# Altium schematic symbol library DM1097_R1M1E1.SCHLIB: 105 symbols (part 2 of 5)
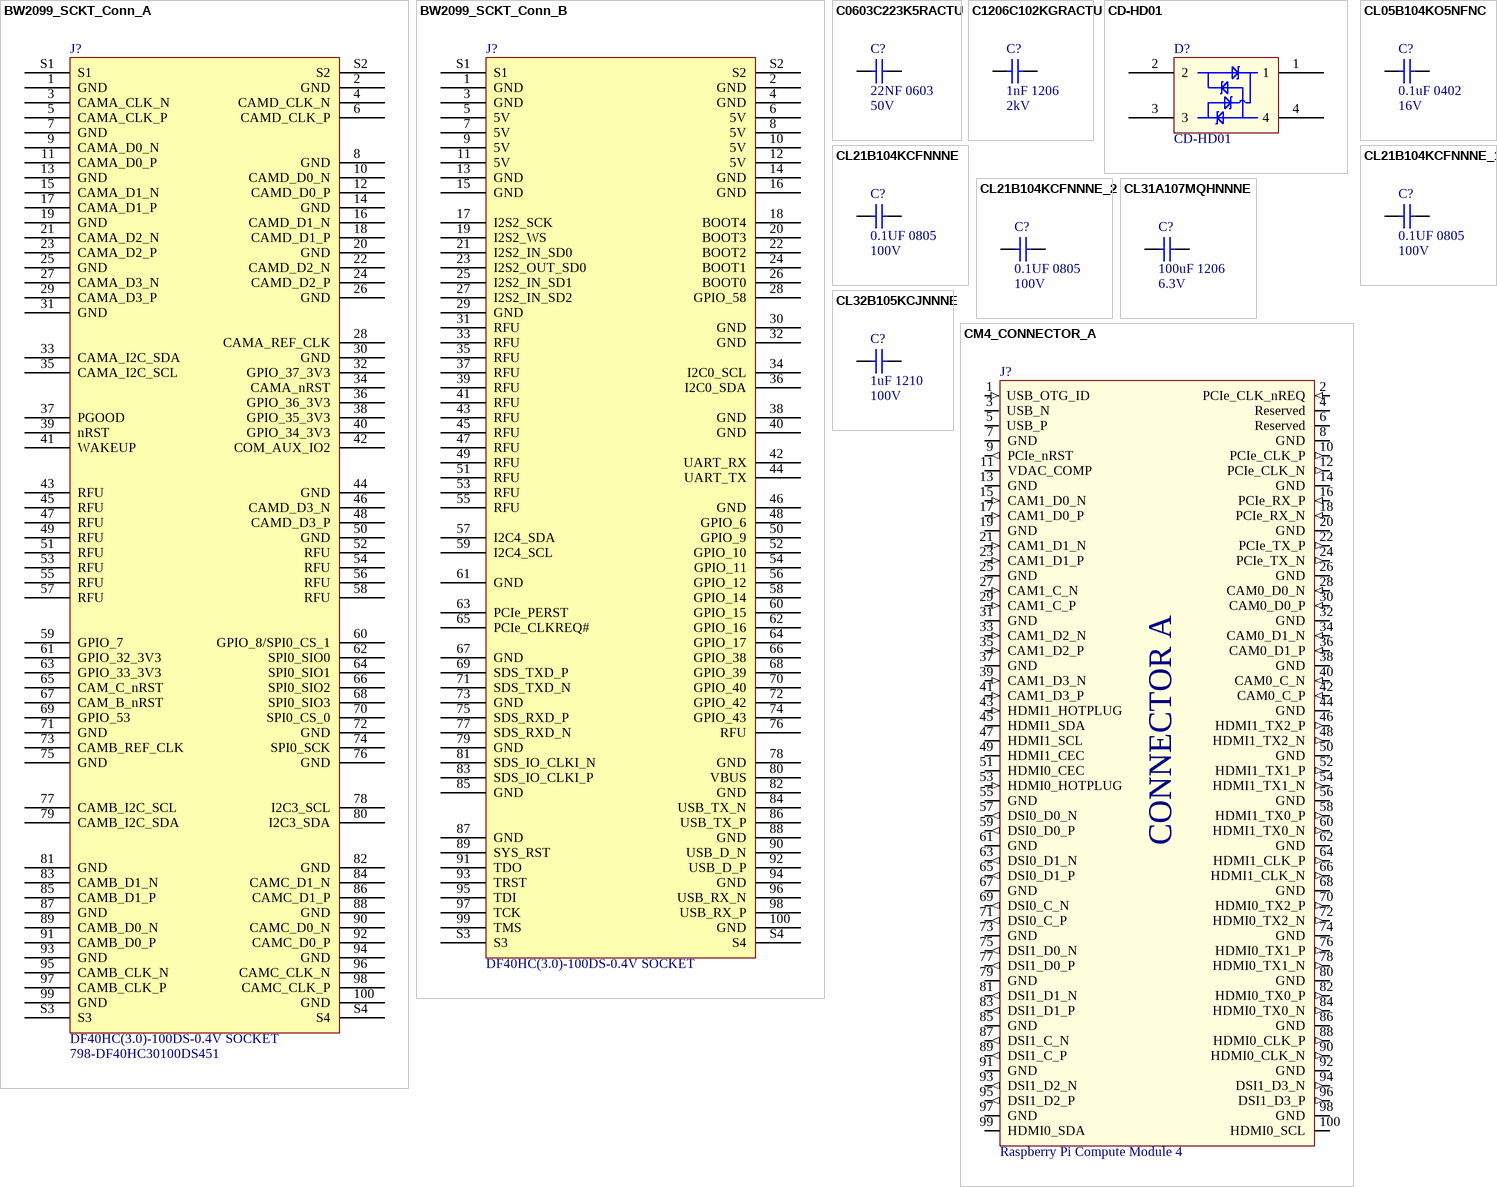
[diagram p4: symbols BW2099_SCKT_Conn_A to CM4_CONNECTOR_A]

## CM4_CONNECTOR_A
designator J?, comment Raspberry Pi Compute Module 4
Raspberry Pi Compute Module 4 Hirose connector A; Manufacturer Part Number 1: DF40HC(3.0)-100DS-0.4V(51; ComponentLink1Description: https://datasheet.ciiva.com/46636/ed-df40-20140305-46636517.pdf?src-supplier=Digi-Key; ComponentLink1URL: https://datasheet.ciiva.com/46636/ed-df40-20140305-46636517.pdf?src-supplier=Digi-Key; ComponentLink2Description: https://datasheet.ciiva.com/18562/ed-df40-20140305-18562189.pdf?src-supplier=Digi-Key; ComponentLink2URL: https://datasheet.ciiva.com/18562/ed-df40-20140305-18562189.pdf?src-supplier=Digi-Key; ComponentLink3Description: https://datasheet.ciiva.com/13559/ed-df40-20140305-13559540.pdf?src-supplier=Mouser; ComponentLink3URL: https://datasheet.ciiva.com/13559/ed-df40-20140305-13559540.pdf?src-supplier=Mouser; ComponentLink4Description: https://datasheet.ciiva.com/18562/ed-df40-20140305-18562462.pdf?src-supplier=Digi-Key; ComponentLink4URL: https://datasheet.ciiva.com/18562/ed-df40-20140305-18562462.pdf?src-supplier=Digi-Key; Manufacturer 1: Hirose
footprint CM4-Connector-A (DF40HC(3.0)-100DS-0.4v by Amornthep Phunsin)
pins: 1 USB_OTG_ID (in) "Input ( 3.3V signal ) USB OTG Pin. Internal pulled up. When grounded the CM4 becomes a USB host but the correct OS driver also needs to be used", 2 PCIe_CLK_nREQ (in) "Input ( 3.3V signal) PCIe Clock request pin (low to request PCI clock). Internal pulled up", 3 USB_N "USB D-", 4 Reserved "Do not Connect anything to this pin.", 5 USB_P "USB D+", 6 Reserved "Do not Connect anything to this pin.", 7 GND (power) "Ground (0V)", 8 GND (power) "Ground (0V)", 9 PCIe_nRST (out) "Output (+3.3V signal) PCIe Reset Low active", 10 PCIe_CLK_P (out) "PCIe Clock Out Positive (100MHz) NB AC coupling Capacitor Included on CM4", 11 VDAC_COMP "Video DAC output (TV OUT)", 12 PCIe_CLK_N (out) "PCIe Clock Out Negative (100MHz) NB AC coupling Capacitor Included on CM4", 13 GND (power) "Ground (0V)", 14 GND (power) "Ground (0V)", 15 CAM1_D0_N (in) "Input Camera1 D0 Negative", 16 PCIe_RX_P (in) "Input PCIe GEN 2 RX Positive NB External AC coupling Capacitor required", 17 CAM1_D0_P (in) "Input Camera1 D0 Positive", 18 PCIe_RX_N (in) "Input PCIe GEN 2 RX Negative NB External AC coupling Capacitor required", 19 GND (power) "Ground (0V)", 20 GND (power) "Ground (0V)", 21 CAM1_D1_N (in) "Input Camera1 D1 Negative", 22 PCIe_TX_P (out) "Output PCIe GEN 2 TX Positive NB AC coupling Capacitor Included on CM4", 23 CAM1_D1_P (in) "Input Camera1 D1 Positive", 24 PCIe_TX_N (out) "Output PCIe GEN 2 TX Positive NB AC coupling Capacitor Included on CM4", 25 GND (power) "Ground (0V)", 26 GND (power) "Ground (0V)", 27 CAM1_C_N (in) "Input Camera1 Clock Negative", 28 CAM0_D0_N (in) "Input Camera0 D0 Negative", 29 CAM1_C_P (in) "Input Camera1 Clock Positive", 30 CAM0_D0_P (in) "Input Camera0 D0 Positive", 31 GND (power) "Ground (0V)", 32 GND (power) "Ground (0V)", 33 CAM1_D2_N (in) "Input Camera1 D2 Negative", 34 CAM0_D1_N (in) "Input Camera0 D1 Negative", 35 CAM1_D2_P (in) "Input Camera1 D2 Positive", 36 CAM0_D1_P (in) "Input Camera0 D1 Positive", 37 GND (power) "Ground (0V)", 38 GND (power) "Ground (0V)", 39 CAM1_D3_N (in) "Input Camera1 D3 Negative", 40 CAM0_C_N (in) "Input Camera0 Clock Negative", 41 CAM1_D3_P (in) "Input Camera1 D3 Positive", 42 CAM0_C_P (in) "Input Camera0 Clock Positive", 43 HDMI1_HOTPLUG (in) "Input HDMI1 Hotplug Internally pulled down with a 100K. 5V tolerant. (It can be connected directly to a HDMI connector a small amount of ESD protection is provided on the CM4 by an on board HDMI05-CL02F3)", 44 GND (power) "Ground (0V)", 45 HDMI1_SDA (io) "Bidir HDMI1 SDA Internally pulled up with a 1.8K. 5V tolerant. (It can be connected directly to a HDMI connector a small amount of ESD protection is provided on the CM4 by an on board HDMI05-CL02F3)", 46 HDMI1_TX2_P (out) "Output HDMI1 TX2 Positive", 47 HDMI1_SCL (oc) "Input HDMI1 SCL Internally pulled up with a 1.8K. 5V tolerant. (It can be connected directly to a HDMI connector a small amount of ESD protection is provided on the CM4 by an on board HDMI05-CL02F3)", 48 HDMI1_TX2_N (out) "Output HDMI1 TX2 Negative", 49 HDMI1_CEC (oc) "Input HDMI1 CEC Internally pulled up with a 27K. 5V tolerant. (It can be connected directly to a HDMI connector a small amount of ESD protection is provided on the CM4 by an on board HDMI05-CL02F3)", 50 GND (power) "Ground (0V)", 51 HDMI0_CEC (oc) "Input HDMI0 CEC Internally pulled up with a 27K. 5V tolerant (It can be connected directly to a HDMI connector a small amount of ESD protection is provided on the CM4 by an on board HDMI05-CL02F3)", 52 HDMI1_TX1_P (out) "Output HDMI1 TX1 Positive", 53 HDMI0_HOTPLUG (in) "Input HDMI0 Hotplug Internally pulled down 100K. 5V tolerant. (It can be connected directly to a HDMI connector a small amount of ESD protection is provided on the CM4 by an on board HDMI05-CL02F3)", 54 HDMI1_TX1_N (out) "Output HDMI1 TX1 Negative", 55 GND (power) "Ground (0V)", 56 GND (power) "Ground (0V)", 57 DSI0_D0_N (out) "Output Display0 D0 Negative", 58 HDMI1_TX0_P (out) "Output HDMI1 TX0 Positive", 59 DSI0_D0_P (out) "Output Display0 D0 Positive", 60 HDMI1_TX0_N (out) "Output HDMI1 TX0 Negative", 61 GND (power) "Ground (0V)", 62 GND (power) "Ground (0V)", 63 DSI0_D1_N (out) "Output Display0 D1 Negative", 64 HDMI1_CLK_P (out) "Output HDMI1 Clock Positive", 65 DSI0_D1_P (out) "Output Display0 D1 Positive", 66 HDMI1_CLK_N (out) "Output HDMI1 Clock Negative", 67 GND (power) "Ground (0V)", 68 GND (power) "Ground (0V)", 69 DSI0_C_N (out) "Output Display0 Clock Negative", 70 HDMI0_TX2_P (out) "Output HDMI0 TX2 Positive", 71 DSI0_C_P (out) "Output Display0 Clock Positive", 72 HDMI0_TX2_N (out) "Output HDMI0 TX2 Negative", 73 GND (power) "Ground (0V)", 74 GND (power) "Ground (0V)", 75 DSI1_D0_N (out) "Output Display1 D0 Negative", 76 HDMI0_TX1_P (out) "Output HDMI0 TX1 Positive", 77 DSI1_D0_P (out) "Output Display1 D0 Positive", 78 HDMI0_TX1_N (out) "Output HDMI0 TX1 Negative", 79 GND (power) "Ground (0V)", 80 GND (power) "Ground (0V)", 81 DSI1_D1_N (out) "Output Display1 D1 Negative", 82 HDMI0_TX0_P (out) "Output HDMI0 TX0 Positive", 83 DSI1_D1_P (out) "Output Display1 D1 Positive", 84 HDMI0_TX0_N (out) "Output HDMI0 TX0 Negative", 85 GND (power) "Ground (0V)", 86 GND (power) "Ground (0V)", 87 DSI1_C_N (out) "Output Display1 Clock Negative", 88 HDMI0_CLK_P (out) "Output HDMI0 Clock Positive", 89 DSI1_C_P (out) "Output Display1 Clock Positive", 90 HDMI0_CLK_N (out) "Output HDMI0 Clock Negative", 91 GND (power) "Ground (0V)", 92 GND (power) "Ground (0V)", 93 DSI1_D2_N (out) "Output Display1 D2 Negative", 94 DSI1_D3_N (out) "Output Display1 D3 Negative", 95 DSI1_D2_P (out) "Output Display1 D2 Positive", 96 DSI1_D3_P (out) "Output Display1 D3 Positive", 97 GND (power) "Ground (0V)", 98 GND (power) "Ground (0V)", 99 HDMI0_SDA (io) "Bidir HDMI0 SDA Internally pulled up with a 1.8K. 5V tolerant. (It can be connected directly to a HDMI connector a small amount of ESD protection is provided on the CM4 by an on board HDMI05-CL02F3)", 100 HDMI0_SCL (oc) "Bidir HDMI0 SCL Internally pulled up with a 1.8K. 5V tolerant. (It can be connected directly to a HDMI connector a small amount of ESD protection is provided on the CM4 by an on board HDMI05-CL02F3)"
text: CONNECTOR A

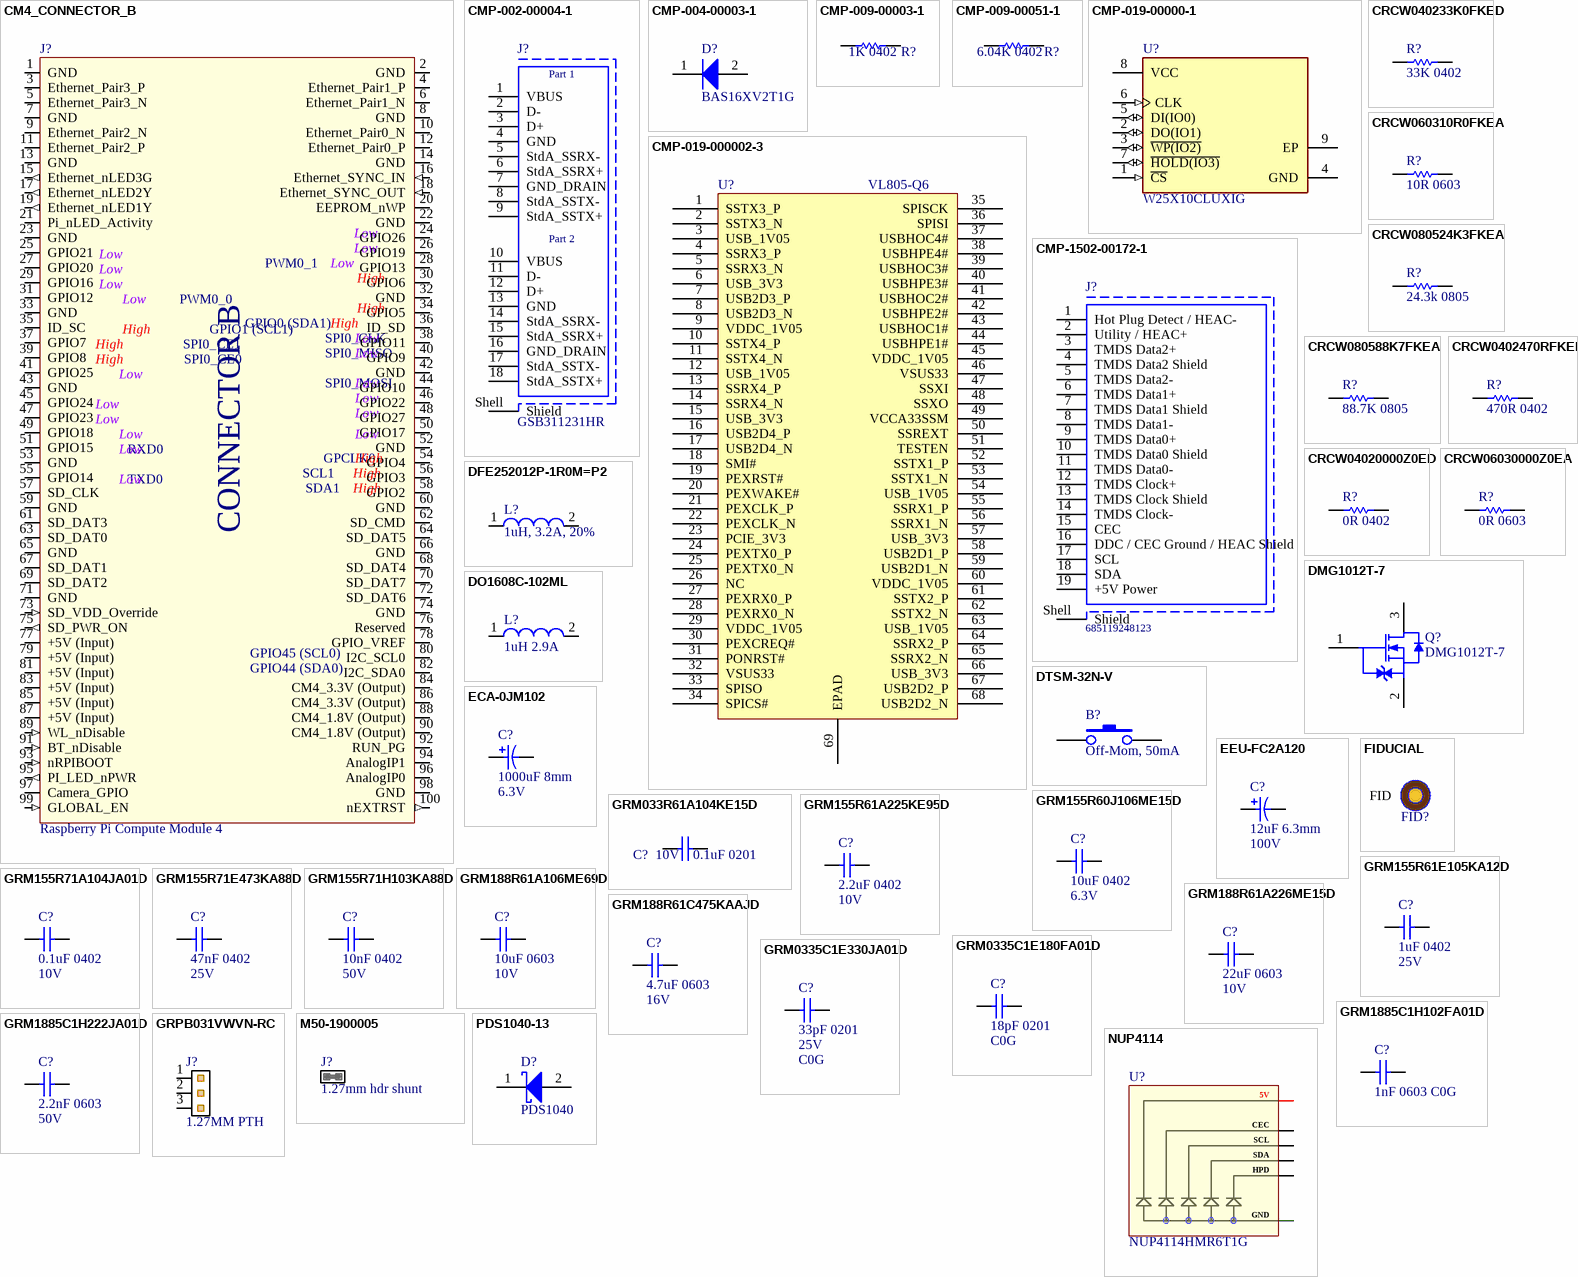
[diagram p2: symbols CM4_CONNECTOR_B to PDS1040-13]

## CM4_CONNECTOR_B
designator J?, comment Raspberry Pi Compute Module 4
Raspberry Pi Compute Module 4 Hirose connector B; Manufacturer Part Number 1: DF40HC(3.0)-100DS-0.4V(51; ComponentLink1Description: https://datasheet.ciiva.com/46636/ed-df40-20140305-46636517.pdf?src-supplier=Digi-Key; ComponentLink1URL: https://datasheet.ciiva.com/46636/ed-df40-20140305-46636517.pdf?src-supplier=Digi-Key; ComponentLink2Description: https://datasheet.ciiva.com/18562/ed-df40-20140305-18562189.pdf?src-supplier=Digi-Key; ComponentLink2URL: https://datasheet.ciiva.com/18562/ed-df40-20140305-18562189.pdf?src-supplier=Digi-Key; ComponentLink3Description: https://datasheet.ciiva.com/13559/ed-df40-20140305-13559540.pdf?src-supplier=Mouser; ComponentLink3URL: https://datasheet.ciiva.com/13559/ed-df40-20140305-13559540.pdf?src-supplier=Mouser; ComponentLink4Description: https://datasheet.ciiva.com/18562/ed-df40-20140305-18562462.pdf?src-supplier=Digi-Key; ComponentLink4URL: https://datasheet.ciiva.com/18562/ed-df40-20140305-18562462.pdf?src-supplier=Digi-Key; Manufacturer 1: Hirose
footprint CM4-Connector-B (DF40HC(3.0)-100DS-0.4v by Amornthep Phunsin)
pins: 1 GND (power) "Ground (0V)", 2 GND (power) "Ground (0V)", 3 Ethernet_Pair3_P "Ethernet Pair 3 Positive ( connect to Transformer or MagJack)", 4 Ethernet_Pair1_P "Ethernet Pair 1 Positive ( connect to Transformer or MagJack)", 5 Ethernet_Pair3_N "Ethernet Pair 3 Negative ( connect to Transformer or MagJack)", 6 Ethernet_Pair1_N "Ethernet Pair 1 Negative ( connect to Transformer or MagJack)", 7 GND (power) "Ground (0V)", 8 GND (power) "Ground (0V)", 9 Ethernet_Pair2_N "Ethernet Pair 2 Negative ( connect to Transformer or MagJack)", 10 Ethernet_Pair0_N "Ethernet Pair 0 Negative ( connect to Transformer or MagJack)", 11 Ethernet_Pair2_P "Ethernet Pair 2 Positive ( connect to Transformer or MagJack)", 12 Ethernet_Pair0_P "Ethernet Pair 0 Positive ( connect to Transformer or MagJack)", 13 GND (power) "Ground (0V)", 14 GND (power) "Ground (0V)", 15 Ethernet_nLED3G (out) "Low Active Ethernet Activity indicator ( 3.3V signal) Typically a Green LED is connected to this pin: IOL = 8mA @ VOL< 0.4V", 16 Ethernet_SYNC_IN (in) "IEEE1588 SYNC Input pin ( 1.8V signal : IOL = 8mA @ VOL< 0.4V )", 17 Ethernet_nLED2Y (out) "Low Active Ethernet speed indicator ( 3.3V signal) Typically a Yellow LED is connected to this pin. A low State indicates the 1Gbit or 100Mbit Link : IOL = 8mA @ VOL< 0.4V", 18 Ethernet_SYNC_OUT (in) "IEEE1588 SYNC Output pin ( 1.8V signal : IOL = 8mA @ VOL< 0.4V )", 19 Ethernet_nLED1Y (out) "Low Active Ethernet speed indicator ( 3.3V signal) Typically a Yellow LED is connected to this pin. A low State indicates the 1Gbit or 10Mbit Link : IOL = 8mA @ VOL< 0.4V", 20 EEPROM_nWP "Leaving floating NB internally pulled up to CM4_3.3V via 100K ( VIL <0.8V) but can be grounded to prevent writing to the on board EEPROM which stores the bootcode", 21 Pi_nLED_Activity (oc) "Low Active Pi Activity LED. 20mA Max 5V tolerant ( VOL<0.4V). ( this is the signal that drives the Green LED on the Raspberry Pi 4, Model B )", 22 GND (power) "Ground (0V)", 23 GND (power) "Ground (0V)", 24 GPIO26 "Pin37", 25 GPIO21 "Pin40", 26 GPIO19 "Pin35", 27 GPIO20 "Pin38", 28 GPIO13 "Pin33 PWM1", 29 GPIO16 "Pin36", 30 GPIO6 "Pin31", 31 GPIO12 "Pin32 PWM0", 32 GND (power) "Ground (0V)", 33 GND (power) "Ground (0V)", 34 GPIO5 "Pin29", 35 ID_SC "Pin28 GPIO1 SCL0", 36 ID_SD "Pin27 GPIO0 SDA0", 37 GPIO7 "Pin26 SPI0_CE1", 38 GPIO11 "Pin23 SPI0_CLK", 39 GPIO8 "Pin24 SPI0_CE0", 40 GPIO9 "Pin21 SPI0_MISO", 41 GPIO25 "Pin22", 42 GND (power) "Ground (0V)", 43 GND (power) "Ground (0V)", 44 GPIO10 "Pin19 SPI0_MOSI", 45 GPIO24 "Pin18", 46 GPIO22 "Pin15", 47 GPIO23 "Pin16", 48 GPIO27 "Pin13", 49 GPIO18 "Pin12", 50 GPIO17 "Pin11", 51 GPIO15 "Pin10 RXD0", 52 GND (power) "Ground (0V)", 53 GND (power) "Ground (0V)", 54 GPIO4 "Pin7 GPCLK0", 55 GPIO14 "Pin8 TXD0", 56 GPIO3 "Pin5 SCL1 Internal 1.8K pull up", 57 SD_CLK "SDCARD Clock signal (only available on CM4Lite)", 58 GPIO2 "Pin3 SDA1 Internal 1.8K pull up", 59 GND (power) "Ground (0V)", 60 GND (power) "Ground (0V)", 61 SD_DAT3 "SDCARD/eMMC Data3 signal (only available on CM4Lite)", 62 SD_CMD "SDCARD/eMMC Command signal (only available on CM4Lite)", 63 SD_DAT0 "SDCARD/eMMC Data0 signal (only available on CM4Lite)", 64 SD_DAT5 "SDCARD/eMMC Data5 signal (only available on CM4Lite)", 65 GND (power) "Ground (0V)", 66 GND (power) "Ground (0V)", 67 SD_DAT1 "SDCARD/eMMC Data1 signal (only available on CM4Lite)", 68 SD_DAT4 "SDCARD/eMMC Data4 signal (only available on CM4Lite)", 69 SD_DAT2 "SDCARD/eMMC Data2 signal (only available on CM4Lite)", 70 SD_DAT7 "SDCARD/eMMC Data7 signal (only available on CM4Lite)", 71 GND (power) "Ground (0V)", 72 SD_DAT6 "SDCARD/eMMC Data6 signal (only available on CM4Lite)", 73 SD_VDD_Override (in) "Force SDCARD/eMMC interface to 1.8V signalling if set to 3.3V, otherwise leave unconnected. Typically only used if external eMMC is connected", 74 GND (power) "Ground (0V)", 75 SD_PWR_ON (out) "Output to Power switch for SDCARD. CM4 sets this pin High (3.3V) to signal that Power to the SDCARD should be turned on. If booting from the SDCARD is required then a pullup should be fitted (only available on CM4Lite)", 76 Reserved "Do not Connect anything to this pin.", 77 +5V (Input) (power) "4.75V-5.25V Main power input", 78 GPIO_VREF (power) "Must be connected to CM4_3.3V ( pins 84 and 86 ) for 3.3V GPIO or CM4_1.8V ( pins 88 and 90) for 1.8V GPIO. This pin cannot be floating or connected to ground", 79 +5V (Input) (power) "4.75V-5.25V Main power input", 80 I2C_SCL0 "IIC Clock pin ( Raspberry Pi GPIO45) Typically used for Camera and Displays Internal 1.8K pull up to CM4_3.3V", 81 +5V (Input) (power) "4.75V-5.25V Main power input", 82 I2C_SDA0 "IIC Data pin ( Raspberry Pi GPIO44 ) Typically used for Camera and Displays Internal 1.8K pull up to CM4_3.3V", 83 +5V (Input) (power) "4.75V-5.25V Main power input", 84 CM4_3.3V (Output) (power) "3.3V +/-2.5% Power Output max 300mA per pin for a total of 600mA. This will be powered down during power off or GLOBAL_EN being set low", 85 +5V (Input) (power) "4.75V-5.25V Main power input", 86 CM4_3.3V (Output) (power) "3.3V +/-2.5% Power Output max 300mA per pin for a total of 600mA. This will be powered down during power off or GLOBAL_EN being set low", 87 +5V (Input) (power) "4.75V-5.25V Main power input", 88 CM4_1.8V (Output) (power) "1.8V +/-2.5% Power Output max 300mA per pin for a total of 600mA. This will be powered down during power off or GLOBAL_EN being set low", 89 WL_nDisable (in) "Can be left floating if driven low the wireless interface will be disabled. Internal pulled up via 1.8K to CM4_3.3V", 90 CM4_1.8V (Output) (power) "1.8V +/-2.5% Power Output max 300mA per pin for a total of 600mA. This will be powered down during power off or GLOBAL_EN being set low", 91 BT_nDisable (in) "Can be left floating if driven low the Bluetooth interface will be disabled. Internal pulled up via 1.8K to CM4_3.3V", 92 RUN_PG "Bidirectional pin. Can be driven low ( via a 220R resistor) to Reset the CM4 CPU. As an Output a high signals Power Good and CPU running. Internally pulled up to +3.3V via 10K", 93 nRPIBOOT (in) "A low on this pin force booting from an RPI server ( e.g PC or a Raspberry Pi)  if not used leave floating. Internally pulled via 10K to +3.3V", 94 AnalogIP1 "Analogue input of the MAX7704. Typically connected to CC pin of Type C power connector", 95 PI_LED_nPWR (out) "Low active Output to drive Power On LED. This signal needs to be buffered.", 96 AnalogIP0 "Analogue input of the MAX7704. Typically connected to CC pin of Type C power connector", 97 Camera_GPIO "Typically used to Shutdown the camera to reduce power. Reassigning this pin to another function isn’t recommended. CM4_3.3V signalling", 98 GND (power) "Ground (0V)", 99 GLOBAL_EN (in) "Input. Drive low to power off CM4. Internally pulled up with a 100K to +5V", 100 nEXTRST (out) "Output Driven low during reset Driven high (CM4_3.3V) once CM4 CPU has started to boot"
text: Low; PWM0_1; High; PWM0_0; GPIO1 (SCL1); GPIO0 (SDA1); SPI0_CE1; SPI0_CLK; SPI0_CE0; SPI0_MISO; SPI0_MOSI; RXD0; GPCLK0; TXD0; SCL1; SDA1; CONNECTOR B; GPIO45 (SCL0); GPIO44 (SDA0)

## CMP-002-00004-1
designator J?, comment GSB311231HR
USB Connector, 18 Contact(s), Female, Right Angle, Solder Terminal; Manufacturer 1: Amphenol ICC; Manufacturer: Amphenol Commercial; Manufacturer Part Number 1: GSB311231HR; Manufacturer Part Number: GSB311231HR; Component Type: Connectors
footprint GSB311231HR
pins: 1 VBUS, 2 D-, 3 D+, 4 GND, 5 StdA_SSRX-, 6 StdA_SSRX+, 7 GND_DRAIN, 8 StdA_SSTX-, 9 StdA_SSTX+, 10 VBUS, 11 D-, 12 D+, 13 GND, 14 StdA_SSRX-, 15 StdA_SSRX+, 16 GND_DRAIN, 17 StdA_SSTX-, 18 StdA_SSTX+, Shell Shield
text: Part 1; Part 2

## CMP-004-00003-1
designator D?, comment BAS16XV2T1G
DIODE GEN PURP 75V 200MA SOD523; Manufacturer 1: ON Semiconductor; Max Surge Current: 500mA; Element Configuration: Single; Capacitance: 2pF; Power Dissipation: 200mW; Peak Reverse Current: 1uA; Reverse Recovery Time: 6ns; Forward Voltage: 1.25V; Polarity: Standard; ComponentLink6URL: https://datasheet.ciiva.com/16475/bas16xv2t1-d-16475723.pdf?src-supplier=Avnet+Asia; ComponentLink5Description: https://datasheet.ciiva.com/15144/getdatasheetpartid-84399-15144565.pdf?src-supplier=Verical; Stock 2: 246371; Peak Non-Repetitive Surge Current: 500mA; ComponentLink6Description: https://datasheet.ciiva.com/16475/bas16xv2t1-d-16475723.pdf?src-supplier=Avnet+Asia; ComponentLink3Description: https://datasheet.ciiva.com/22663/1708232-22663646.pdf?src-supplier=Element14; Contact Plating: Tin,Matte; Length: 1.3mm; Manufacturer Part Number 1: BAS16XV2T1G; Packaging: Tape and Reel; Stock 1: 246371; Lead Free: Lead Free; Width: 0.9mm; Max Forward Surge Current (Ifsm): 500mA; Halogen Free: Halogen Free; ComponentLink4Description: https://datasheet.ciiva.com/36525/806485-36525908.pdf?src-supplier=Jameco; Source: LuxonisMaster.SchLib; Package Quantity: 1; ComponentLink3URL: https://datasheet.ciiva.com/22663/1708232-22663646.pdf?src-supplier=Element14; Output Current: 200mA; Case/Package: SOD-523-2; Height: 0.7mm; ComponentLink5URL: https://datasheet.ciiva.com/15144/getdatasheetpartid-84399-15144565.pdf?src-supplier=Verical; Min Operating Temperature: -55°C; REACH SVHC: No SVHC; ComponentLink4URL: https://datasheet.ciiva.com/36525/806485-36525908.pdf?src-supplier=Jameco; Radiation Hardening: No; Max Reverse Voltage (DC): 75V; ComponentLink7Description: https://datasheet.ciiva.com/25930/bas16xv2t1-d-25930683.pdf?src-supplier=Avnet+Europe; Design Item ID: BAS16XV2T1G; Max Operating Temperature: 150°C; ComponentLink2URL: https://datasheet.ciiva.com/4434/bas16xv2t1-d-103464-4434928.pdf?src-supplier=Mouser; Forward Current: 200mA; Max Reverse Leakage Current: 1uA; Average Rectified Current: 200mA; ComponentLink1Description: https://datasheet.ciiva.com/915/bas16xv2t1-d-915360.pdf?src-supplier=Digi-Key; Pins: 2; Manufacturer Part Number 2: BAS16XV2T1G; Max Repetitive Reverse Voltage (Vrrm): 75V; ComponentLink2Description: https://datasheet.ciiva.com/4434/bas16xv2t1-d-103464-4434928.pdf?src-supplier=Mouser; ComponentLink7URL: https://datasheet.ciiva.com/25930/bas16xv2t1-d-25930683.pdf?src-supplier=Avnet+Europe; Pricing 2: 1=0.13000, 10=0.11600, 100=0.06330, 500=0.03898, 1000=0.02658 (USD); ComponentLink1URL: https://datasheet.ciiva.com/915/bas16xv2t1-d-915360.pdf?src-supplier=Digi-Key; Recovery Time: 6ns; Manufacturer 2: ON Semiconductor; Pricing 1: 1=0.13000, 10=0.11600, 100=0.06330, 500=0.03898, 1000=0.02658 (USD); RoHS: Yes; Component Type: Diodes
footprint BAS16XV2T1G (SOD, 2-Leads, Body 1.2x0.8mm)
pins: 1 K, 2 A

## CMP-009-00003-1
designator R?, comment 1K 0402
RES SMD 1K OHM 1% 1/16W 0402 1 kOhms ±1% 0.063W, 1/16W Chip Resistor 0402 (1005 Metric) Moisture Resistant Thick Film; Manufacturer Part Number 1: RC0402FR-071KL; Manufacturer 1: Yageo; Temperature Coefficient: 100ppm/°C; Power Rating: 62.5mW; Voltage Rating (DC): 50V; Lead Free: Lead Free; Length: 1mm; ComponentLink3URL: https://datasheet.ciiva.com/17063/pyu-rc0402-51-rohs-l-6-r-17063193.pdf?src-supplier=Future+Electronics; ComponentLink6Description: https://datasheet.ciiva.com/7983/1018594-7983502.pdf?src-supplier=Element14; ComponentLink5URL: https://datasheet.ciiva.com/7849/1018594-7849869.pdf?src-supplier=Element14; ComponentLink6URL: https://datasheet.ciiva.com/7983/1018594-7983502.pdf?src-supplier=Element14; ComponentLink5Description: https://datasheet.ciiva.com/7849/1018594-7849869.pdf?src-supplier=Element14; ComponentLink1URL: https://datasheet.ciiva.com/11819/0900766b80c66297-11819477.pdf?src-supplier=RSComponents; REACH SVHC: Unknown; Tolerance: 1%; Termination: SMD/SMT; ComponentLink4Description: https://datasheet.ciiva.com/22747/1018594-22747513.pdf?src-supplier=Element14; ComponentLink3Description: https://datasheet.ciiva.com/17063/pyu-rc0402-51-rohs-l-6-r-17063193.pdf?src-supplier=Future+Electronics; Height: 0.32mm; ComponentLink7URL: https://datasheet.ciiva.com/7849/1018594-7849871.pdf?src-supplier=Element14; Source: LuxonisMaster.SchLib; ComponentLink4URL: https://datasheet.ciiva.com/22747/1018594-22747513.pdf?src-supplier=Element14; Max Operating Temperature: 155°C; Depth: 0.5mm; ComponentLink1Description: https://datasheet.ciiva.com/11819/0900766b80c66297-11819477.pdf?src-supplier=RSComponents; Case Code (Metric): 1005; ComponentLink2URL: https://datasheet.ciiva.com/12666/pyu-rc0402-51-rohs-l-6-r-12666741.pdf?src-supplier=Mouser; Composition: Thick Film; ComponentLink2Description: https://datasheet.ciiva.com/12666/pyu-rc0402-51-rohs-l-6-r-12666741.pdf?src-supplier=Mouser; Packaging: Tape and Reel; Stock 1: 60695854; Pins: 2; Military Standard: Not; Width: 0.5mm; RoHS: Yes; Min Operating Temperature: -55°C; Voltage Rating: 50V; Pricing 1: 1=0.10000, 10=0.01600, 100=0.00670, 1000=0.00301, 2500=0.00261, 5000=0.00215 (USD); Case/Package: 0402; Design Item ID: RC0402FR-071KL; ComponentLink7Description: https://datasheet.ciiva.com/7849/1018594-7849871.pdf?src-supplier=Element14; Value: 1k; Component Type: Resistors
footprint RESC0402(1005)_L (Chip Resistor, Body 1.0x0.5mm, IPC High Density)
footprint RESC0402(1005)_M (Chip Resistor, Body 1.0x0.5mm, IPC Low Density)
footprint RESC0402(1005)_N (Chip Resistor, Body 1.0x0.5mm, IPC Medium Density)
pins: 1, 2

## CMP-009-00051-1
designator R?, comment 6.04K 0402
Fixed Resistor, Metal Glaze/thick Film, 0.063W, 6040ohm, 50V, 1% +/-Tol, 100ppm/Cel, Surface Mount, 0402; Manufacturer Part Number 1: CRCW04026K04FKED; Manufacturer 1: Vishay; Package Width: 0.5mm; Temperature Coefficient: 100ppm/°C; Resistance: 6.04kR; Rated Power Dissipation (P): 63mW; Package Height: 0.35mm; Package Length: 1mm; Reference Standard: AEC-Q200; Rated Temperature: 70°C; Max Operating Temperature: 155°C; Package Shape: Rectangular; Size Code: 0402; Terminal Finish: Nickel; Packaging: Tape and Reel; REACH SVHC: Yes; Resistor Type: FIXED RESISTOR; Termination: Wraparound; Number of Pins: 2; Technology: METAL GLAZE/THICK FILM; Min Operating Temperature: -55°C; Working Voltage: 50V; RoHS Compliant: Yes; JESD-609 Code: e3; Package Style: SMTMeter; Mount: Surface Mount; Construction: Chip; Tolerance: 1%; Component Type: Resistors
footprint RESC0402(1005)_L (Chip Resistor, Body 1.0x0.5mm, IPC High Density)
footprint RESC0402(1005)_M (Chip Resistor, Body 1.0x0.5mm, IPC Low Density)
footprint RESC0402(1005)_N (Chip Resistor, Body 1.0x0.5mm, IPC Medium Density)
pins: 1, 2
1 alternate drawing of the same symbol

## CMP-019-00000-1
designator U?, comment W25X10CLUXIG
Flash, 1MX1, PDSO8; Manufacturer 1: Winbond; Write Protection: HARDWARE/SOFTWARE; Number of Words: 1048576; Power Supplies: 2.5/3.3V; Qualification Status: Not Qualified; Memory Width: 1; Package Equivalence Code: SOLCC8,.11,20; Max Supply Current: 15uA; Number of Words Code: 1M; Serial Bus Type: SPI; Data Retention Time-Min: 20; Programming Voltage: 3V; Operating Mode: SYNCHRONOUS; Supply Voltage-Max (Vsup): 3.6V; Parallel/Serial: SERIAL; Density: 1048576b; Supply Voltage-Min (Vsup): 2.7V; Clock Frequency-Max (fCLK): 104MHz; Standby Current-Max: 5uA; Endurance: 100000Cycles; Package Body Material: Plastic; Organization: 1MX1; Width: 2mm; RoHS Compliant: Yes; Package Shape: Rectangular; Memory Type: FLASH; Package Style: SMALL OUTLINEMeter; Technology: CMOS; JESD-30 Code: R-PDSO-N8; Length: 3mm; Terminal Form: No Lead; Type: NOR TYPE; Number of Functions: 1; Terminal Position: DUAL; Surface Mount: Yes; Supply Voltage-Nom (Vsup): 3V; Height - Seated (Max): 0.6mm; Package Code: HVSON; Min Operating Temperature: -40°C; Manufacturer Part Number 1: W25X10CLUXIG; REACH SVHC: Yes; Max Operating Temperature: 85°C; Terminal Pitch: 0.5mm; Number of Pins: 8; Temperature Grade: INDUSTRIAL; Component Type: Memory
footprint FP-UX-IPC_A
footprint FP-UX-IPC_B (Footprint not found)
footprint FP-UX-MFG (Footprint not found)
footprint FP-UX-IPC_C (Footprint not found)
pins: 1 ~{CS} (in), 2 DO(IO1) (io), 3 ~{WP(IO2)} (io), 4 GND (power), 5 DI(IO0) (io), 6 CLK (in), 7 ~{HOLD(IO3)} (io), 8 VCC (power), 9 EP

## CMP-019-000002-3
designator U?, comment VL805-Q6
4-Port USB 3.0 Host Controller; Manufacturer 1: Via Labs Inc.; Manufacturer Part Number 1: VL805-Q6; Pricing 1: 3,25$; Component Type: Data Converters
footprint VL805_QFN-68 (QFN, 68-Leads, Body 8x8mm, Pitch 0.4mm, Thermal Pad 5.7x5.7mm, IPC Low Density)
pins: 1 SSTX3_P, 2 SSTX3_N, 3 USB_1V05, 4 SSRX3_P, 5 SSRX3_N, 6 USB_3V3, 7 USB2D3_P, 8 USB2D3_N, 9 VDDC_1V05, 10 SSTX4_P, 11 SSTX4_N, 12 USB_1V05, 13 SSRX4_P, 14 SSRX4_N, 15 USB_3V3, 16 USB2D4_P, 17 USB2D4_N, 18 SMI#, 19 PEXRST#, 20 PEXWAKE#, 21 PEXCLK_P, 22 PEXCLK_N, 23 PCIE_3V3, 24 PEXTX0_P, 25 PEXTX0_N, 26 NC, 27 PEXRX0_P, 28 PEXRX0_N, 29 VDDC_1V05, 30 PEXCREQ#, 31 PONRST#, 32 VSUS33, 33 SPISO, 34 SPICS#, 35 SPISCK, 36 SPISI, 37 USBHOC4#, 38 USBHPE4#, 39 USBHOC3#, 40 USBHPE3#, 41 USBHOC2#, 42 USBHPE2#, 43 USBHOC1#, 44 USBHPE1#, 45 VDDC_1V05, 46 VSUS33, 47 SSXI, 48 SSXO, 49 VCCA33SSM, 50 SSREXT, 51 TESTEN, 52 SSTX1_P, 53 SSTX1_N, 54 USB_1V05, 55 SSRX1_P, 56 SSRX1_N, 57 USB_3V3, 58 USB2D1_P, 59 USB2D1_N, 60 VDDC_1V05, 61 SSTX2_P, 62 SSTX2_N, 63 USB_1V05, 64 SSRX2_P, 65 SSRX2_N, 66 USB_3V3, 67 USB2D2_P, 68 USB2D2_N, 69 EPAD

## CMP-1502-00172-1
designator J?, comment 685119248123
Micro HDMI Type D Receptacle WR-COM, Horizontal, SMT; Manufacturer: Wurth Elektronik; Manufacturer: Wurth Electronics; Contact Resistance: 10mOhm; Working Voltage: 40VAC; Rated Current: 0.5A; Publisher: WurthElektronik; Part Number: 685119248123; Packaging: TapeandReel; Gender: Receptacle; Datasheet URL: https://katalog.we-online.de/em/datasheet/685119248123.pdf; Mounting Technology: SMT; Package Reference: 685119248123; Manufacturer URL: http://www.we-online.de; Orientation: Horizontal; Operating Temperature: -40to85degC; Connector Type: MicroHDMITypeD; Manufacturer Part Number: 685119248123
footprint 685119248123 (Micro HDMI Horizontal SMT)
pins: 1 Hot Plug Detect / HEAC-, 2 Utility / HEAC+, 3 TMDS Data2+, 4 TMDS Data2 Shield, 5 TMDS Data2-, 6 TMDS Data1+, 7 TMDS Data1 Shield, 8 TMDS Data1-, 9 TMDS Data0+, 10 TMDS Data0 Shield, 11 TMDS Data0-, 12 TMDS Clock+, 13 TMDS Clock Shield, 14 TMDS Clock-, 15 CEC, 16 DDC / CEC Ground / HEAC Shield, 17 SCL, 18 SDA, 19 +5V Power, Shell Shield

## CRCW040233K0FKED
designator R?, comment 33K 0402
RES SMD 33K OHM 1% 1/16W 0402; Manufacturer 1: Vishay; Manufacturer Part Number 1: CRCW040233K0FKED; Resistance: 33kR; Power Rating: 63mW; Voltage Rating: 50V; Temperature Coefficient: 100ppm/°C; Supplier 1: Digi-Key; Stock 1: 59075; Pricing 1: 1=0.10000, 10=0.03800, 100=0.01540, 1000=0.00690, 2500=0.00599, 5000=0.00495 (USD); RoHS: Yes; Case/Package: 0402; Weight: 2.3E-05oz; Case Code (Imperial): 0402; Case Code (Metric): 1005; Min Operating Temperature: -55°C; Max Operating Temperature: 155°C; Tolerance: 1%; Packaging: Tape and Reel; Termination: SMD/SMT; Composition: Thick Film; Military Standard: Not; Voltage Rating (DC): 50V; Length: 1mm; Height: 0.35mm; Width: 0.5mm; Depth: 0.5mm; REACH SVHC: Unknown; Lead Free: Lead Free; ComponentLink1URL: https://datasheet.ciiva.com/11812/0900766b80d98824-11812191.pdf?src-supplier=RSComponents; ComponentLink1Description: https://datasheet.ciiva.com/11812/0900766b80d98824-11812191.pdf?src-supplier=RSComponents; ComponentLink2URL: https://datasheet.ciiva.com/5544/dcrcwe3-109170-5544613.pdf?src-supplier=Mouser; ComponentLink2Description: https://datasheet.ciiva.com/5544/dcrcwe3-109170-5544613.pdf?src-supplier=Mouser; ComponentLink3URL: https://datasheet.ciiva.com/22870/70201119-22870281.pdf?src-supplier=Allied+Electronics; ComponentLink3Description: https://datasheet.ciiva.com/22870/70201119-22870281.pdf?src-supplier=Allied+Electronics; Supplier 2: Newark; Supplier 3: Mouser; Supplier Part Number 1: 541-33.0KLCT-ND; Supplier Part Number 2: 26W9081; Supplier Part Number 3: 71-CRCW040233K0FKED; Mount: Surface Mount; Number of Pins: 2; Contact Plating: Tin; Package Quantity: 10; Number of Terminations: 2; Max Power Dissipation: 63mW; Features: Automotive AEC-Q200; Radiation Hardening: No; ComponentLink4URL: https://datasheet.ciiva.com/2463/dcrcwe3-2463133.pdf?src-supplier=Digi-Key; ComponentLink4Description: https://datasheet.ciiva.com/2463/dcrcwe3-2463133.pdf?src-supplier=Digi-Key; ComponentLink5URL: https://datasheet.ciiva.com/2463/dcrcwe3-2463134.pdf?src-supplier=Digi-Key; ComponentLink5Description: https://datasheet.ciiva.com/2463/dcrcwe3-2463134.pdf?src-supplier=Digi-Key; ComponentLink6URL: https://datasheet.ciiva.com/22674/1847332-22674693.pdf?src-supplier=Element14; ComponentLink6Description: https://datasheet.ciiva.com/22674/1847332-22674693.pdf?src-supplier=Element14; ComponentLink7URL: https://datasheet.ciiva.com/16200/dcrcwe3-16200566.pdf?src-supplier=Future+Electronics; ComponentLink7Description: https://datasheet.ciiva.com/16200/dcrcwe3-16200566.pdf?src-supplier=Future+Electronics; ComponentLink8URL: https://datasheet.ciiva.com/3256/dcrcwe3-3256411.pdf?src-supplier=Avnet; ComponentLink8Description: https://datasheet.ciiva.com/3256/dcrcwe3-3256411.pdf?src-supplier=Avnet; ComponentLink9URL: https://datasheet.ciiva.com/3256/dcrcwe3-3256412.pdf?src-supplier=Avnet; ComponentLink9Description: https://datasheet.ciiva.com/3256/dcrcwe3-3256412.pdf?src-supplier=Avnet; ComponentLink10URL: https://datasheet.ciiva.com/2463/dcrcwe3-2463135.pdf?src-supplier=Digi-Key; ComponentLink10Description: https://datasheet.ciiva.com/2463/dcrcwe3-2463135.pdf?src-supplier=Digi-Key; ComponentLink11URL: https://datasheet.ciiva.com/16772/70201119-16772031.pdf?src-supplier=Allied+Electronics; ComponentLink11Description: https://datasheet.ciiva.com/16772/70201119-16772031.pdf?src-supplier=Allied+Electronics; ComponentLink12URL: https://datasheet.ciiva.com/22704/1697337-22704431.pdf?src-supplier=Element14; ComponentLink12Description: https://datasheet.ciiva.com/22704/1697337-22704431.pdf?src-supplier=Element14
footprint RESC0402(1005)_L (Chip Resistor, Body 1.0x0.5mm, IPC High Density)
footprint RESC0402(1005)_M (Chip Resistor, Body 1.0x0.5mm, IPC Low Density)
footprint RESC0402(1005)_N (Chip Resistor, Body 1.0x0.5mm, IPC Medium Density)
pins: 1, 2

## CRCW060310R0FKEA
designator R?, comment 10R 0603
RES SMD 10 OHM 1% 1/10W 0603; Manufacturer 1: Vishay; Manufacturer Part Number 1: CRCW060310R0FKEA; Power Rating: 100mW; Temperature Coefficient: 100ppm/°C; Voltage Rating: 75V; Supplier 1: Digi-Key; Stock 1: 155545; Pricing 1: 1=0.10000, 10=0.03400, 100=0.01390, 1000=0.00623, 2500=0.00540 (USD); RoHS: Yes; Mount: Surface Mount; Case/Package: 0603; Number of Pins: 2; Weight: 7.1E-05oz; Contact Plating: Tin; Case Code (Metric): 1608; Case Code (Imperial): 0603; Min Operating Temperature: -55°C; Max Operating Temperature: 155°C; Resistance: 10R; Tolerance: 1%; Composition: Thick Film; Packaging: Tape and Reel; Package Quantity: 10; Number of Terminations: 2; Termination: SMD/SMT; Military Standard: Not; Max Power Dissipation: 100mW; Voltage Rating (DC): 75V; Features: Automotive AEC-Q200; Length: 1.55mm; Height: 0.45mm; Width: 0.033inch; Depth: 0.85mm; Lead Free: Lead Free; REACH SVHC: Unknown; ComponentLink1URL: https://datasheet.ciiva.com/11808/0900766b80d98afc-11808660.pdf?src-supplier=RSComponents; ComponentLink1Description: https://datasheet.ciiva.com/11808/0900766b80d98afc-11808660.pdf?src-supplier=RSComponents; ComponentLink2URL: https://datasheet.ciiva.com/3256/dcrcwe3-3256955.pdf?src-supplier=Avnet; ComponentLink2Description: https://datasheet.ciiva.com/3256/dcrcwe3-3256955.pdf?src-supplier=Avnet; ComponentLink3URL: https://datasheet.ciiva.com/5547/dcrcwe3-109170-5547342.pdf?src-supplier=Mouser; ComponentLink3Description: https://datasheet.ciiva.com/5547/dcrcwe3-109170-5547342.pdf?src-supplier=Mouser; ComponentLink4URL: https://datasheet.ciiva.com/22673/1697337-22673071.pdf?src-supplier=Element14; ComponentLink4Description: https://datasheet.ciiva.com/22673/1697337-22673071.pdf?src-supplier=Element14; ComponentLink5URL: https://datasheet.ciiva.com/2465/dcrcwe3-2465699.pdf?src-supplier=Digi-Key; ComponentLink5Description: https://datasheet.ciiva.com/2465/dcrcwe3-2465699.pdf?src-supplier=Digi-Key; ComponentLink6URL: https://datasheet.ciiva.com/2465/dcrcwe3-2465701.pdf?src-supplier=Digi-Key; ComponentLink6Description: https://datasheet.ciiva.com/2465/dcrcwe3-2465701.pdf?src-supplier=Digi-Key; ComponentLink7URL: https://datasheet.ciiva.com/26316/fld-crcw-e3-data-en-26316582.pdf?src-supplier=Distrelec; ComponentLink7Description: https://datasheet.ciiva.com/26316/fld-crcw-e3-data-en-26316582.pdf?src-supplier=Distrelec; ComponentLink8URL: https://datasheet.ciiva.com/16781/70201119-16781847.pdf?src-supplier=Allied+Electronics; ComponentLink8Description: https://datasheet.ciiva.com/16781/70201119-16781847.pdf?src-supplier=Allied+Electronics; ComponentLink9URL: https://datasheet.ciiva.com/2465/dcrcwe3-2465700.pdf?src-supplier=Digi-Key; ComponentLink9Description: https://datasheet.ciiva.com/2465/dcrcwe3-2465700.pdf?src-supplier=Digi-Key; ComponentLink10URL: https://datasheet.ciiva.com/16740/dcrcwe3-16740661.pdf?src-supplier=Future+Electronics; ComponentLink10Description: https://datasheet.ciiva.com/16740/dcrcwe3-16740661.pdf?src-supplier=Future+Electronics; Supplier 2: Mouser; Supplier 3: Newark; Supplier Part Number 1: 541-10.0HDKR-ND; Supplier Part Number 2: 71-CRCW0603-10-E3; Supplier Part Number 3: 61M5338
footprint RESC0603(1608)_L (Chip Resistor, Body 1.6x0.8mm, IPC High Density)
footprint RESC0603(1608)_M (Chip Resistor, Body 1.6x0.8mm, IPC Low Density)
footprint RESC0603(1608)_N (Chip Resistor, Body 1.6x0.8mm, IPC Medium Density)
pins: 1, 2

## CRCW080524K3FKEA
designator R?, comment 24.3k 0805
RES SMD 24.3K OHM 1% 1/8W 0805; Manufacturer 1: Vishay; Manufacturer Part Number 1: CRCW080524K3FKEA; Resistance: 24.3kR; Temperature Coefficient: 100ppm/°C; Power Rating: 125mW; Voltage Rating: 150V; Supplier 1: Digi-Key; Stock 1: 7150; Pricing 1: 1=0.10000, 10=0.06200, 100=0.02540, 1000=0.01142, 2500=0.00991 (USD); RoHS: Yes; Mount: Surface Mount; Case/Package: 0805; Number of Pins: 2; Weight: 0.000194oz; Contact Plating: Tin; Case Code (Imperial): 0805; Case Code (Metric): 2012; Min Operating Temperature: -55°C; Max Operating Temperature: 155°C; Tolerance: 1%; Packaging: Tape and Reel; Composition: Thick Film; Package Quantity: 10; Termination: SMD/SMT; Number of Terminations: 2; Max Power Dissipation: 125mW; Features: Automotive AEC-Q200; Military Standard: Not; Voltage Rating (DC): 150V; Working Voltage: 150V; Length: 2mm; Height: 0.45mm; Width: 1.25mm; Depth: 1.25mm; Radiation Hardening: No; Lead Free: Lead Free; REACH SVHC: Unknown; ComponentLink1URL: https://datasheet.ciiva.com/11811/0900766b80d98b26-11811485.pdf?src-supplier=RSComponents; ComponentLink1Description: https://datasheet.ciiva.com/11811/0900766b80d98b26-11811485.pdf?src-supplier=RSComponents; ComponentLink2URL: https://datasheet.ciiva.com/5544/dcrcwe3-109170-5544277.pdf?src-supplier=Mouser; ComponentLink2Description: https://datasheet.ciiva.com/5544/dcrcwe3-109170-5544277.pdf?src-supplier=Mouser; ComponentLink3URL: https://datasheet.ciiva.com/2467/dcrcwe3-2467350.pdf?src-supplier=Digi-Key; ComponentLink3Description: https://datasheet.ciiva.com/2467/dcrcwe3-2467350.pdf?src-supplier=Digi-Key; ComponentLink4URL: https://datasheet.ciiva.com/3258/dcrcwe3-3258365.pdf?src-supplier=Avnet; ComponentLink4Description: https://datasheet.ciiva.com/3258/dcrcwe3-3258365.pdf?src-supplier=Avnet; ComponentLink5URL: https://datasheet.ciiva.com/2467/dcrcwe3-2467351.pdf?src-supplier=Digi-Key; ComponentLink5Description: https://datasheet.ciiva.com/2467/dcrcwe3-2467351.pdf?src-supplier=Digi-Key; ComponentLink6URL: https://datasheet.ciiva.com/2467/dcrcwe3-2467352.pdf?src-supplier=Digi-Key; ComponentLink6Description: https://datasheet.ciiva.com/2467/dcrcwe3-2467352.pdf?src-supplier=Digi-Key; ComponentLink7URL: https://datasheet.ciiva.com/22872/70201119-22872331.pdf?src-supplier=Allied+Electronics; ComponentLink7Description: https://datasheet.ciiva.com/22872/70201119-22872331.pdf?src-supplier=Allied+Electronics; ComponentLink8URL: https://datasheet.ciiva.com/3258/dcrcwe3-3258364.pdf?src-supplier=Avnet; ComponentLink8Description: https://datasheet.ciiva.com/3258/dcrcwe3-3258364.pdf?src-supplier=Avnet; ComponentLink9URL: https://datasheet.ciiva.com/17183/dcrcwe3-17183388.pdf?src-supplier=Avnet+Europe; ComponentLink9Description: https://datasheet.ciiva.com/17183/dcrcwe3-17183388.pdf?src-supplier=Avnet+Europe; ComponentLink10URL: https://datasheet.ciiva.com/22705/1697337-22705870.pdf?src-supplier=Element14; ComponentLink10Description: https://datasheet.ciiva.com/22705/1697337-22705870.pdf?src-supplier=Element14; ComponentLink11URL: https://datasheet.ciiva.com/16202/dcrcwe3-16202447.pdf?src-supplier=Future+Electronics; ComponentLink11Description: https://datasheet.ciiva.com/16202/dcrcwe3-16202447.pdf?src-supplier=Future+Electronics; Supplier 2: Newark; Supplier 3: Mouser; Supplier Part Number 1: 541-24.3KCCT-ND; Supplier Part Number 2: 53K0042; Supplier Part Number 3: 71-CRCW0805-24.3K-E3
footprint RESC0805(2012)_L (Chip Resistor, Body 2.0x1.3mm, IPC High Density)
footprint RESC0805(2012)_M (Chip Resistor, Body 2.0x1.3mm, IPC Low Density)
footprint RESC0805(2012)_N (Chip Resistor, Body 2.0x1.3mm, IPC Medium Density)
pins: 1, 2

## CRCW080588K7FKEA
designator R?, comment 88.7K 0805
RES SMD 88.7K OHM 1% 1/8W 0805; Manufacturer 1: Vishay; Manufacturer Part Number 1: CRCW080588K7FKEA; Resistance: 88.7kR; Temperature Coefficient: 100ppm/°C; Max Power Dissipation: 125mW; Voltage Rating (DC): 150V; Supplier 1: Digi-Key; Stock 1: 5728; Pricing 1: 1=0.10000, 10=0.06200, 100=0.02540, 1000=0.01142, 2500=0.00991 (USD); RoHS: Yes; Case/Package: 0805; Number of Pins: 2; Weight: 0.000194oz; Contact Plating: Tin; Case Code (Metric): 2012; Case Code (Imperial): 0805; Min Operating Temperature: -55°C; Max Operating Temperature: 155°C; Tolerance: 1%; Packaging: Tape and Reel; Composition: Thick Film; Package Quantity: 10; Number of Terminations: 2; Features: Automotive AEC-Q200; Termination: SMD/SMT; Power Rating: 125mW; Voltage Rating: 150V; Length: 0.079inch; Height: 0.02inch; Width: 0.049inch; Height - Seated (Max): 0.02inch; Radiation Hardening: No; Lead Free: Lead Free; REACH SVHC: Unknown; ComponentLink1URL: https://datasheet.ciiva.com/7816/1697337-7816134.pdf?src-supplier=Element14; ComponentLink1Description: https://datasheet.ciiva.com/7816/1697337-7816134.pdf?src-supplier=Element14; ComponentLink2URL: https://datasheet.ciiva.com/2496/dcrcwe3-2496001.pdf?src-supplier=Digi-Key; ComponentLink2Description: https://datasheet.ciiva.com/2496/dcrcwe3-2496001.pdf?src-supplier=Digi-Key; ComponentLink3URL: https://datasheet.ciiva.com/2496/dcrcwe3-2496002.pdf?src-supplier=Digi-Key; ComponentLink3Description: https://datasheet.ciiva.com/2496/dcrcwe3-2496002.pdf?src-supplier=Digi-Key; ComponentLink4URL: https://datasheet.ciiva.com/2496/dcrcwe3-2496003.pdf?src-supplier=Digi-Key; ComponentLink4Description: https://datasheet.ciiva.com/2496/dcrcwe3-2496003.pdf?src-supplier=Digi-Key; ComponentLink5URL: https://datasheet.ciiva.com/7816/1697337-7816135.pdf?src-supplier=Element14; ComponentLink5Description: https://datasheet.ciiva.com/7816/1697337-7816135.pdf?src-supplier=Element14; ComponentLink6URL: https://datasheet.ciiva.com/22705/1697337-22705887.pdf?src-supplier=Element14; ComponentLink6Description: https://datasheet.ciiva.com/22705/1697337-22705887.pdf?src-supplier=Element14; Supplier 2: Newark; Supplier 3: Mouser; Supplier Part Number 2: 53K0521; Supplier Part Number 1: 541-88.7KCCT-ND; Supplier Part Number 3: 71-CRCW0805-88.7K-E3
footprint RESC0805(2012)_L (Chip Resistor, Body 2.0x1.3mm, IPC High Density)
footprint RESC0805(2012)_M (Chip Resistor, Body 2.0x1.3mm, IPC Low Density)
footprint RESC0805(2012)_N (Chip Resistor, Body 2.0x1.3mm, IPC Medium Density)
pins: 1, 2

## CRCW0402470RFKED
designator R?, comment 470R 0402
RES SMD 470 OHM 1% 1/16W 0402; Manufacturer 1: Vishay; Manufacturer Part Number 1: CRCW0402470RFKED; Temperature Coefficient: 100ppm/°C; Power Rating: 63mW; Voltage Rating: 50V; Supplier 1: Digi-Key; Stock 1: 9199; Pricing 1: 1=0.10000, 10=0.03800, 100=0.01540, 1000=0.00690, 2500=0.00599, 5000=0.00495 (USD); RoHS: Yes; Case/Package: 0402; Weight: 2.3E-05oz; Case Code (Imperial): 0402; Case Code (Metric): 1005; Min Operating Temperature: -55°C; Max Operating Temperature: 155°C; Packaging: Tape and Reel; Resistance: 470R; Tolerance: 1%; Composition: Thick Film; Voltage Rating (DC): 50V; Termination: SMD/SMT; Military Standard: Not; Length: 1mm; Height: 0.35mm; Width: 0.5mm; Depth: 0.5mm; Lead Free: Lead Free; ComponentLink1URL: https://datasheet.ciiva.com/11811/0900766b80d98824-11811416.pdf?src-supplier=RSComponents; ComponentLink1Description: https://datasheet.ciiva.com/11811/0900766b80d98824-11811416.pdf?src-supplier=RSComponents; Supplier 2: Newark; Supplier Part Number 1: 541-470LCT-ND; Supplier Part Number 2: 26W9133; Mount: Surface Mount; Contact Plating: Tin; Number of Terminations: 2; Package Quantity: 10; Max Power Dissipation: 63mW; Features: Automotive AEC-Q200; Radiation Hardening: No; REACH SVHC: Unknown; ComponentLink2URL: https://datasheet.ciiva.com/16764/70201119-16764886.pdf?src-supplier=Allied+Electronics; ComponentLink2Description: https://datasheet.ciiva.com/16764/70201119-16764886.pdf?src-supplier=Allied+Electronics; ComponentLink3URL: https://datasheet.ciiva.com/28613/1720486-28613479.pdf?src-supplier=Element14; ComponentLink3Description: https://datasheet.ciiva.com/28613/1720486-28613479.pdf?src-supplier=Element14; ComponentLink4URL: https://datasheet.ciiva.com/3256/dcrcwe3-3256553.pdf?src-supplier=Avnet; ComponentLink4Description: https://datasheet.ciiva.com/3256/dcrcwe3-3256553.pdf?src-supplier=Avnet; ComponentLink5URL: https://datasheet.ciiva.com/7777/1720486-7777243.pdf?src-supplier=Element14; ComponentLink5Description: https://datasheet.ciiva.com/7777/1720486-7777243.pdf?src-supplier=Element14; ComponentLink6URL: https://datasheet.ciiva.com/8336/dcrcwe3-8336715.pdf?src-supplier=Avnet; ComponentLink6Description: https://datasheet.ciiva.com/8336/dcrcwe3-8336715.pdf?src-supplier=Avnet; ComponentLink7URL: https://datasheet.ciiva.com/7777/1697337-7777244.pdf?src-supplier=Element14; ComponentLink7Description: https://datasheet.ciiva.com/7777/1697337-7777244.pdf?src-supplier=Element14; ComponentLink8URL: https://datasheet.ciiva.com/2463/dcrcwe3-2463085.pdf?src-supplier=Digi-Key; ComponentLink8Description: https://datasheet.ciiva.com/2463/dcrcwe3-2463085.pdf?src-supplier=Digi-Key; ComponentLink9URL: https://datasheet.ciiva.com/16362/dcrcwe3-16362109.pdf?src-supplier=Future+Electronics; ComponentLink9Description: https://datasheet.ciiva.com/16362/dcrcwe3-16362109.pdf?src-supplier=Future+Electronics; ComponentLink10URL: https://datasheet.ciiva.com/16882/dcrcwe3-16882493.pdf?src-supplier=Avnet+Europe; ComponentLink10Description: https://datasheet.ciiva.com/16882/dcrcwe3-16882493.pdf?src-supplier=Avnet+Europe; ComponentLink11URL: https://datasheet.ciiva.com/2463/dcrcwe3-2463086.pdf?src-supplier=Digi-Key; ComponentLink11Description: https://datasheet.ciiva.com/2463/dcrcwe3-2463086.pdf?src-supplier=Digi-Key; ComponentLink12URL: https://datasheet.ciiva.com/2463/dcrcwe3-2463087.pdf?src-supplier=Digi-Key; ComponentLink12Description: https://datasheet.ciiva.com/2463/dcrcwe3-2463087.pdf?src-supplier=Digi-Key
footprint RESC0402(1005)_L (Chip Resistor, Body 1.0x0.5mm, IPC High Density)
footprint RESC0402(1005)_M (Chip Resistor, Body 1.0x0.5mm, IPC Low Density)
footprint RESC0402(1005)_N (Chip Resistor, Body 1.0x0.5mm, IPC Medium Density)
pins: 1, 2

## CRCW04020000Z0ED
designator R?, comment 0R 0402
RES SMD 0 OHM JUMPER 1/16W 0402; Manufacturer 1: Vishay; Manufacturer Part Number 1: CRCW04020000Z0ED; Resistance: 0mR; Power Rating: 63mW; Voltage Rating: 50V; Temperature Coefficient: 100ppm/°C; Tolerance: 5%; Supplier 1: Digi-Key; Stock 1: 855968; Pricing 1: 1=0.10000, 10=0.03400, 25=0.02440, 50=0.01860, 100=0.01380, 250=0.01048, 500=0.00840, 1000=0.00618, 5000=0.00443 (USD); RoHS: Yes; Mount: Surface Mount; Case/Package: 0402; Weight: 2.3E-05oz; Case Code (Imperial): 0402; Case Code (Metric): 1005; Contact Plating: Tin; Min Operating Temperature: -55°C; Max Operating Temperature: 155°C; Packaging: Tape and Reel; Composition: Thick Film; Voltage Rating (DC): 50V; Package Quantity: 1; Termination: SMD/SMT; Number of Terminations: 2; Military Standard: Not; Max Power Dissipation: 63mW; Features: Automotive AEC-Q200; Length: 1mm; Height: 0.35mm; Width: 0.5mm; Depth: 0.5mm; Radiation Hardening: No; REACH SVHC: Unknown; Lead Free: Lead Free; ComponentLink1URL: https://datasheet.ciiva.com/3255/dcrcwe3-3255944.pdf?src-supplier=Avnet; ComponentLink1Description: https://datasheet.ciiva.com/3255/dcrcwe3-3255944.pdf?src-supplier=Avnet; ComponentLink2URL: https://datasheet.ciiva.com/3255/dcrcwe3-3255945.pdf?src-supplier=Avnet; ComponentLink2Description: https://datasheet.ciiva.com/3255/dcrcwe3-3255945.pdf?src-supplier=Avnet; ComponentLink3URL: https://datasheet.ciiva.com/16881/dcrcwe3-16881413.pdf?src-supplier=Avnet+Europe; ComponentLink3Description: https://datasheet.ciiva.com/16881/dcrcwe3-16881413.pdf?src-supplier=Avnet+Europe; ComponentLink4URL: https://datasheet.ciiva.com/2461/dcrcwe3-2461962.pdf?src-supplier=Digi-Key; ComponentLink4Description: https://datasheet.ciiva.com/2461/dcrcwe3-2461962.pdf?src-supplier=Digi-Key; ComponentLink5URL: https://datasheet.ciiva.com/7841/1720486-7841802.pdf?src-supplier=Element14; ComponentLink5Description: https://datasheet.ciiva.com/7841/1720486-7841802.pdf?src-supplier=Element14; ComponentLink6URL: https://datasheet.ciiva.com/2461/dcrcwe3-2461963.pdf?src-supplier=Digi-Key; ComponentLink6Description: https://datasheet.ciiva.com/2461/dcrcwe3-2461963.pdf?src-supplier=Digi-Key; ComponentLink7URL: https://datasheet.ciiva.com/2461/dcrcwe3-2461964.pdf?src-supplier=Digi-Key; ComponentLink7Description: https://datasheet.ciiva.com/2461/dcrcwe3-2461964.pdf?src-supplier=Digi-Key; ComponentLink8URL: https://datasheet.ciiva.com/7841/1697337-7841468.pdf?src-supplier=Element14; ComponentLink8Description: https://datasheet.ciiva.com/7841/1697337-7841468.pdf?src-supplier=Element14; ComponentLink9URL: https://datasheet.ciiva.com/16761/70200976-16761309.pdf?src-supplier=Allied+Electronics; ComponentLink9Description: https://datasheet.ciiva.com/16761/70200976-16761309.pdf?src-supplier=Allied+Electronics; ComponentLink10URL: https://datasheet.ciiva.com/26311/fld-crcw-e3-data-en-26311550.pdf?src-supplier=Distrelec; ComponentLink10Description: https://datasheet.ciiva.com/26311/fld-crcw-e3-data-en-26311550.pdf?src-supplier=Distrelec; Supplier Part Number 1: 541-0.0JCT-ND
footprint RESC0402(1005)_N (Chip Resistor, Body 1.0x0.5mm, IPC Medium Density)
footprint RESC0402(1005)_M (Chip Resistor, Body 1.0x0.5mm, IPC Low Density)
footprint RESC0402(1005)_L (Chip Resistor, Body 1.0x0.5mm, IPC High Density)
pins: 1, 2